# EAGLE library part PRESSURE (library myLib)
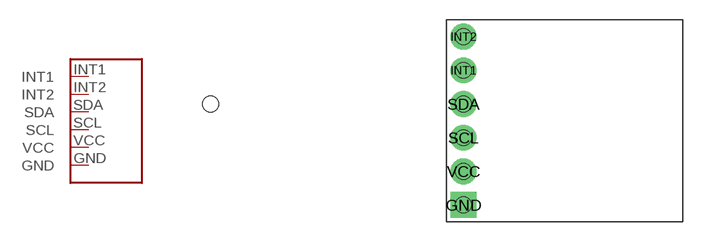
[diagram p3: symbol with the pads of PRESSURE; footprint PRESSURE]

Designator prefix -

## PRESSURE  [PRESSURE]
GND  GND
INT1  INT1
INT2  INT2
SCL  SCL
SDA  SDA
VCC  VCC

## Footprint PRESSURE (pad centres in mm)
drill 1.3 square: GND -7.62,-6.35
drill 1.3: INT1 -7.62,3.81; INT2 -7.62,6.35; SCL -7.62,-1.27; SDA -7.62,1.27; VCC -7.62,-3.81
hole 1.2 at -7.62,6.35
hole 1.2 at -7.62,3.81
hole 1.2 at -7.62,1.27
hole 1.2 at -7.62,-1.27
hole 1.2 at -7.62,-3.81
hole 1.2 at -7.62,-6.35
hole 1.2 at -26.67,1.27